# Altium footprint library _ROBOT.PcbLib: 77 footprints (part 4 of 5)
Each footprint in its own frame and in the unit in brackets; x right, y up, seen from the top. Pads: shape width x height; smd on the part's side, far side on the other; paste and mask are expansions set on the pad; w line width, h text height; cw(c..) or ccw(c..) is an arc to the next point about the centre after c.
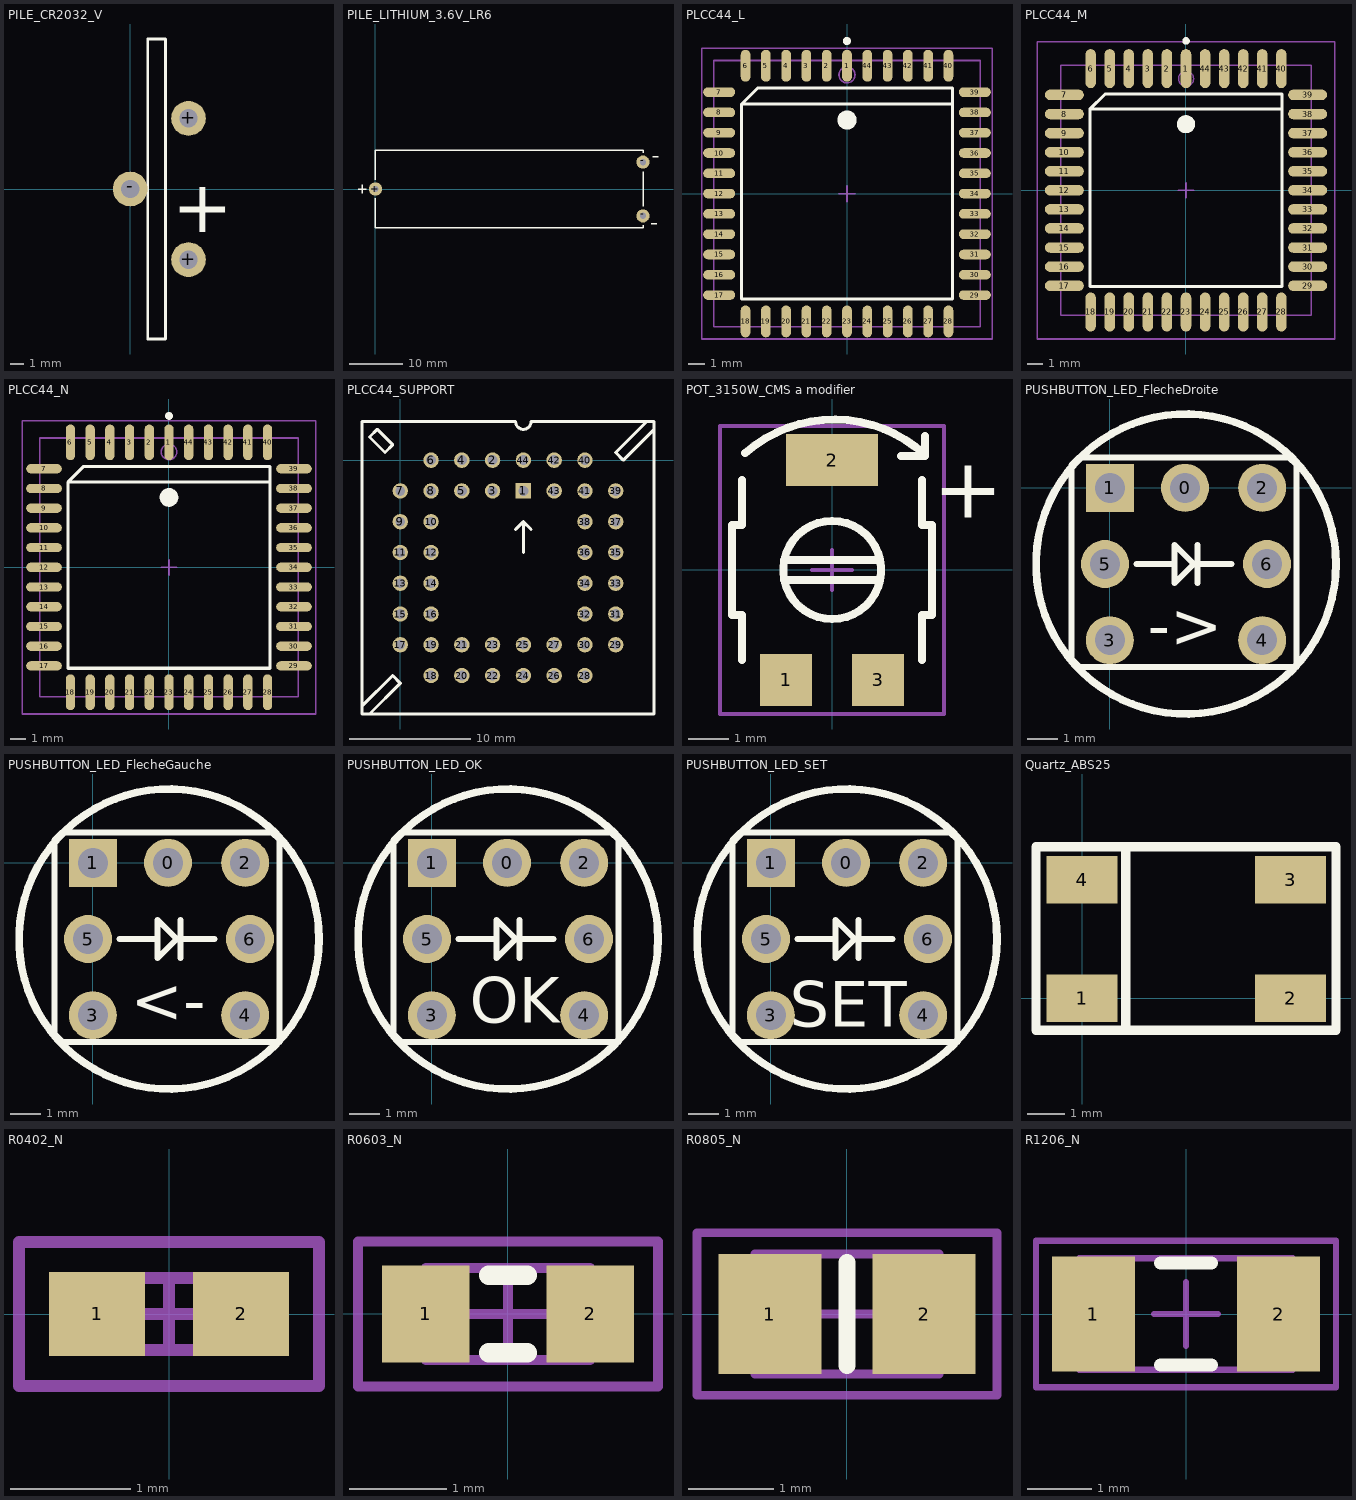
[diagram p3: the footprints below, top view; thin cyan lines are the x and y axes]

## PILE_CR2032_V [mil] "Pile Lithium; CR2032; Vertical; 10X4.2mm:Fix; Diameter:21.5"
height 984.25
pads (3):
  round 98.43 hole 52: +(165.35,-200) +(165.35,200) -(0,0)
Top Overlay:
  lines w8: 50,-425 100,-425 100,425 50,425 50,-425
  text "+" at 119.45,-122.5 h150

## PILE_LITHIUM_3.6V_LR6 [mm] "Lithium SL760/pr; 50.5mm/14.7mm; Pad Spacing=50.5mm/10.16mm"
height 15.5
pads (3):
  round 2.5 hole 1.2: +(0,0) -(50.5,-5.08) -(50.5,5.08)
Top Overlay:
  lines w0.254: -3.302,0 -1.778,0 ; -2.54,-0.762 -2.54,0.762 ; 0,-1.778 0,-7.35 50.546,-7.35 50.546,-7.112 50.546,-6.858 ; 0,1.778 0,7.35 50.546,7.35 50.546,6.858 ; 50.546,-3.302 50.546,3.302 ; 52.07,-6.604 53.086,-6.604 ; 52.324,6.096 53.34,6.096

## PLCC44_L [mm] "44-Pin Plastic J-Lead Chip Carrier (PLCC44), IPC High Density"
height 4.58
pads (44):
  oval 0.6x2 smd: 1(0,8) 2(-1.27,8) 3(-2.54,8) 4(-3.81,8) 5(-5.08,8) 6(-6.35,8) 18(-6.35,-8) 19(-5.08,-8) 20(-3.81,-8) 21(-2.54,-8) 22(-1.27,-8) 23(0,-8) 24(1.27,-8) 25(2.54,-8) 26(3.81,-8) 27(5.08,-8) 28(6.35,-8) 40(6.35,8) 41(5.08,8) 42(3.81,8) 43(2.54,8) 44(1.27,8)
  oval 2x0.6 smd: 7(-8,6.35) 8(-8,5.08) 9(-8,3.81) 10(-8,2.54) 11(-8,1.27) 12(-8,0) 13(-8,-1.27) 14(-8,-2.54) 15(-8,-3.81) 16(-8,-5.08) 17(-8,-6.35) 29(8,-6.35) 30(8,-5.08) 31(8,-3.81) 32(8,-2.54) 33(8,-1.27) 34(8,0) 35(8,1.27) 36(8,2.54) 37(8,3.81) 38(8,5.08) 39(8,6.35)
Top Overlay:
  circle w0.25: c0,9.55 r0.125
  circle w0.6: c0,4.6 r0.3
  lines w0.2: 6.6,5.6 -6.6,5.6 ; -6.6,5.6 -5.6,6.6 6.6,6.6 6.6,-6.6 -6.6,-6.6 -6.6,5.6
Mechanical 13:
  circle w0.1: c0,7.43 r0.5
  lines w0.1: -8.33,-8.33 -8.33,8.33 8.33,8.33 8.33,-8.33 -8.33,-8.33
Mechanical 15:
  lines w0.1: -0.5,0 0.5,0 ; 0,-0.5 0,0.5 ; -9.1,-9.1 -9.1,9.1 9.1,9.1 9.1,-9.1 -9.1,-9.1
3D body: height 4.58, standoff 0, extent -8.33,-8.33 8.33,8.33

## PLCC44_M [mm] "44-Pin Plastic J-Lead Chip Carrier (PLCC44), IPC Low Density"
height 4.58
pads (44):
  oval 0.7x2.6 smd: 1(0,8.1) 2(-1.27,8.1) 3(-2.54,8.1) 4(-3.81,8.1) 5(-5.08,8.1) 6(-6.35,8.1) 18(-6.35,-8.1) 19(-5.08,-8.1) 20(-3.81,-8.1) 21(-2.54,-8.1) 22(-1.27,-8.1) 23(0,-8.1) 24(1.27,-8.1) 25(2.54,-8.1) 26(3.81,-8.1) 27(5.08,-8.1) 28(6.35,-8.1) 40(6.35,8.1) 41(5.08,8.1) 42(3.81,8.1) 43(2.54,8.1) 44(1.27,8.1)
  oval 2.6x0.7 smd: 7(-8.1,6.35) 8(-8.1,5.08) 9(-8.1,3.81) 10(-8.1,2.54) 11(-8.1,1.27) 12(-8.1,0) 13(-8.1,-1.27) 14(-8.1,-2.54) 15(-8.1,-3.81) 16(-8.1,-5.08) 17(-8.1,-6.35) 29(8.1,-6.35) 30(8.1,-5.08) 31(8.1,-3.81) 32(8.1,-2.54) 33(8.1,-1.27) 34(8.1,0) 35(8.1,1.27) 36(8.1,2.54) 37(8.1,3.81) 38(8.1,5.08) 39(8.1,6.35)
Top Overlay:
  circle w0.6: c0,4.4 r0.3
  circle w0.25: c0,9.95 r0.125
  lines w0.2: 6.4,5.4 -6.4,5.4 ; -6.4,5.4 -6.4,-6.4 6.4,-6.4 6.4,6.4 -5.4,6.4 -6.4,5.4
Mechanical 13:
  circle w0.1: c0,7.43 r0.5
  lines w0.1: -8.33,-8.33 8.33,-8.33 8.33,8.33 -8.33,8.33 -8.33,-8.33
Mechanical 15:
  lines w0.1: -0.5,0 0.5,0 ; 0,-0.5 0,0.5 ; -9.9,-9.9 9.9,-9.9 9.9,9.9 -9.9,9.9 -9.9,-9.9
3D body: height 4.58, standoff 0, extent -8.33,-8.33 8.33,8.33

## PLCC44_N [mm] "44-Pin Plastic J-Lead Chip Carrier (PLCC44), IPC Medium Density"
height 4.58
pads (44):
  oval 0.6x2.3 smd: 1(0,8.05) 2(-1.27,8.05) 3(-2.54,8.05) 4(-3.81,8.05) 5(-5.08,8.05) 6(-6.35,8.05) 18(-6.35,-8.05) 19(-5.08,-8.05) 20(-3.81,-8.05) 21(-2.54,-8.05) 22(-1.27,-8.05) 23(0,-8.05) 24(1.27,-8.05) 25(2.54,-8.05) 26(3.81,-8.05) 27(5.08,-8.05) 28(6.35,-8.05) 40(6.35,8.05) 41(5.08,8.05) 42(3.81,8.05) 43(2.54,8.05) 44(1.27,8.05)
  oval 2.3x0.6 smd: 7(-8.05,6.35) 8(-8.05,5.08) 9(-8.05,3.81) 10(-8.05,2.54) 11(-8.05,1.27) 12(-8.05,0) 13(-8.05,-1.27) 14(-8.05,-2.54) 15(-8.05,-3.81) 16(-8.05,-5.08) 17(-8.05,-6.35) 29(8.05,-6.35) 30(8.05,-5.08) 31(8.05,-3.81) 32(8.05,-2.54) 33(8.05,-1.27) 34(8.05,0) 35(8.05,1.27) 36(8.05,2.54) 37(8.05,3.81) 38(8.05,5.08) 39(8.05,6.35)
Top Overlay:
  circle w0.6: c0,4.5 r0.3
  circle w0.25: c0,9.75 r0.125
  lines w0.2: 6.5,5.5 -6.5,5.5 ; -6.5,5.5 -6.5,-6.5 6.5,-6.5 6.5,6.5 -5.5,6.5 -6.5,5.5
Mechanical 13:
  circle w0.1: c0,7.43 r0.5
  lines w0.1: -8.33,-8.33 8.33,-8.33 8.33,8.33 -8.33,8.33 -8.33,-8.33
Mechanical 15:
  lines w0.1: -0.5,0 0.5,0 ; 0,-0.5 0,0.5 ; -9.45,-9.45 9.45,-9.45 9.45,9.45 -9.45,9.45 -9.45,-9.45
3D body: height 4.58, standoff 0, extent -8.33,-8.33 8.33,8.33

## PLCC44_SUPPORT [mil]
pads (44):
  rect 50x50 hole 32: 1(400,-100)
  round 50 hole 32: 2(300,0) 3(300,-100) 4(200,0) 5(200,-100) 6(100,0) 7(0,-100) 8(100,-100) 9(0,-200) 10(100,-200) 11(0,-300) 12(100,-300) 13(0,-400) 14(100,-400) 15(0,-500) 16(100,-500) 17(0,-600) 18(100,-700) 19(100,-600) 20(200,-700) 21(200,-600) 22(300,-700) 23(300,-600) 24(400,-700) 25(400,-600) 26(500,-700) 27(500,-600) 28(600,-700) 29(700,-600) 30(600,-600) 31(700,-500) 32(600,-500) 33(700,-400) 34(600,-400) 35(700,-300) 36(600,-300) 37(700,-200) 38(600,-200) 39(700,-100) 40(600,0) 41(600,-100) 42(500,0) 43(500,-100) 44(400,0)
Top Overlay:
  lines w10: -125,-800 -25,-700 0,-725 -100,-825 ; 375,-225 400,-200 ; 400,-300 400,-200 ; 425,-225 400,-200 ; 800,125 700,25 725,0 825,100 ; -125,-825 -125,125 375,125 ccw(c400,125) 425,125 825,125 825,-825 -125,-825 ; -100,75 -75,100 -25,50 -50,25 -100,75

## POT_3150W_CMS a modifier [mm] "Trimmer CMS 3150W Tyco"
height 1.4
pads (3):
  rect 1.3x1.3 smd: 1(-1.15,-2.75) 3(1.15,-2.75)
  rect 2.3x1.3 smd: 2(0,2.75)
Top Overlay:
  lines w0.2: -2.25,-2.25 -2.25,-1.125 -2.5,-1.125 -2.5,1.125 -2.25,1.125 -2.25,2.25 ; -2.177,2.919 cw(c0.05,0.4) 2.322,2.879 ; 1.726,2.851 2.326,2.851 2.326,3.351 ; 2.25,-2.25 2.25,-1.125 2.5,-1.125 2.5,1.125 2.25,1.125 2.25,2.25 ; -1.198,-0.255 ccw(c0,0) 1.198,-0.255 ; -1.198,-0.255 cw(c0,0) -1.198,0.255 ; -1.198,-0.255 1.198,-0.255 ; -1.198,0.255 cw(c0,0) 1.198,0.255 ; -1.198,0.255 1.198,0.255 ; 1.198,-0.255 ccw(c0,0) 1.198,0.255
  text "+" at 2.53,1.31 h1.52
Mechanical 15:
  lines w0.1: -0.5,0 0.5,0 ; 0,-0.5 0,0.5 ; -2.8,-3.6 2.8,-3.6 2.8,3.6 -2.8,3.6 -2.8,-3.6
3D body: height 2.55, standoff 0, extent -2.46,-3.1 2.54,3.1

## PUSHBUTTON_LED_FlecheDroite [mm]
height 5
pads (7):
  round 1.6 hole 1: 0(2.507,0) 2(5.08,0) 3(0,-5.08) 4(5.08,-5.08) 5(-0.16,-2.54) 6(5.24,-2.54)
  rect 1.6x1.6 hole 1: 1(0,0)
Top Overlay:
  circle w0.254: c2.54,-2.54 r5
  lines w0.2: 0.889,-2.54 2.032,-2.54 ; 2.921,-3.175 2.921,-1.905 ; 2.921,-2.54 4.064,-2.54 ; 5.048,-4.896 5.461,-5.309 ; -1.27,-5.715 -1.27,0.762 -1.016,1.016 5.969,1.016 6.223,0.762 6.223,-5.588 6.223,-5.969 -1.016,-5.969 -1.27,-5.715 ; 2.159,-3.175 2.159,-1.905 2.794,-2.54 2.159,-3.175
  text "->" at 1.27,-5.334 h1.52
3D body: height 10.02, standoff -3.48, extent -2.46,-7.54 7.54,2.46

## PUSHBUTTON_LED_FlecheGauche [mm]
height 5
pads (7):
  round 1.6 hole 1: 0(2.507,0) 2(5.08,0) 3(0,-5.08) 4(5.08,-5.08) 5(-0.16,-2.54) 6(5.24,-2.54)
  rect 1.6x1.6 hole 1: 1(0,0)
Top Overlay:
  circle w0.254: c2.54,-2.54 r5
  lines w0.2: 0.889,-2.54 2.032,-2.54 ; 2.921,-3.175 2.921,-1.905 ; 2.921,-2.54 4.064,-2.54 ; 5.048,-4.896 5.461,-5.309 ; -1.27,-5.715 -1.016,-5.969 6.223,-5.969 6.223,-5.588 6.223,0.762 5.969,1.016 -1.016,1.016 -1.27,0.762 -1.27,-5.715 ; 2.159,-3.175 2.794,-2.54 2.159,-1.905 2.159,-3.175
  text "<-" at 1.27,-5.334 h1.52
3D body: height 10.02, standoff -3.48, extent -2.46,-7.54 7.54,2.46

## PUSHBUTTON_LED_OK [mm]
height 5
pads (7):
  round 1.6 hole 1: 0(2.507,0) 2(5.08,0) 3(0,-5.08) 4(5.08,-5.08) 5(-0.16,-2.54) 6(5.24,-2.54)
  rect 1.6x1.6 hole 1: 1(0,0)
Top Overlay:
  circle w0.254: c2.54,-2.54 r5
  lines w0.2: 0.889,-2.54 2.032,-2.54 ; 2.921,-3.175 2.921,-1.905 ; 2.921,-2.54 4.064,-2.54 ; 5.048,-4.896 5.461,-5.309 ; -1.27,-5.715 -1.016,-5.969 6.223,-5.969 6.223,-5.588 6.223,0.762 5.969,1.016 -1.016,1.016 -1.27,0.762 -1.27,-5.715 ; 2.159,-3.175 2.794,-2.54 2.159,-1.905 2.159,-3.175
  text "OK" at 1.27,-5.334 h1.52
3D body: height 10.02, standoff -3.48, extent -2.46,-7.54 7.54,2.46

## PUSHBUTTON_LED_SET [mm]
height 5
pads (7):
  round 1.6 hole 1: 0(2.507,0) 2(5.08,0) 3(0,-5.08) 4(5.08,-5.08) 5(-0.16,-2.54) 6(5.24,-2.54)
  rect 1.6x1.6 hole 1: 1(0,0)
Top Overlay:
  circle w0.254: c2.54,-2.54 r5
  lines w0.2: 0.889,-2.54 2.032,-2.54 ; 2.921,-3.175 2.921,-1.905 ; 2.921,-2.54 4.064,-2.54 ; 5.048,-4.896 5.461,-5.309 ; -1.27,-5.715 -1.27,0.762 -1.016,1.016 5.969,1.016 6.223,0.762 6.223,-5.588 6.223,-5.969 -1.016,-5.969 -1.27,-5.715 ; 2.159,-3.175 2.159,-1.905 2.794,-2.54 2.159,-3.175
  text "SET" at 0.635,-5.461 h1.52
3D body: height 10.02, standoff -3.48, extent -2.46,-7.54 7.54,2.46

## Quartz_ABS25 [mil]
pads (4):
  rect 75x50 smd: 1(0,0) 2(220,0) 3(220,125) 4(0,125)
Top Overlay:
  lines w10: -48.75,159.97 -48.75,-34 268,-34 268,160 ; -48,160 267,160 ; 46.25,-34 46.25,159.97

## R0402_N [mm] "Chip Resistor, Body 1.1x0.5mm, IPC Medium Density"
height 0.4
pads (2):
  rect 0.8x0.7 smd: 1(-0.6,0) 2(0.6,0)
Mechanical 13:
  lines w0.1: -0.55,-0.3 -0.55,0.3 0.55,0.3 0.55,-0.3 -0.55,-0.3
Mechanical 15:
  lines w0.1: -0.3,0 0.3,0 ; 0,-0.3 0,0.3 ; -1.25,-0.6 -1.25,0.6 1.25,0.6 1.25,-0.6 -1.25,-0.6
3D body: height 0.4, standoff 0, extent -0.55,-0.3 0.55,0.3
3D body: height 0.27, standoff 0, extent -0.5,-0.25 0.5,0.252

## R0603_N [mm] "Chip Resistor, Body 1.6x0.8mm, IPC Medium Density"
height 0.6
pads (2):
  rect 0.9x1 smd: 1(-0.85,0) 2(0.85,0)
Top Overlay:
  lines w0.2: -0.2,-0.4 0.2,-0.4 ; -0.2,0.4 0.2,0.4
Mechanical 13:
  lines w0.1: -0.85,-0.475 -0.85,0.475 0.85,0.475 0.85,-0.475 -0.85,-0.475
Mechanical 15:
  lines w0.1: -0.475,0 0.475,0 ; 0,-0.475 0,0.475 ; -1.55,-0.75 -1.55,0.75 1.55,0.75 1.55,-0.75 -1.55,-0.75
3D body: height 0.6, standoff 0, extent -0.85,-0.475 0.85,0.475
3D body: height 0.37, standoff 0, extent -0.8,-0.402 0.8,0.4

## R0805_N [mm] "Chip Resistor, Body 2.0x1.3mm, IPC Medium Density"
height 0.65
pads (2):
  rect 1.2x1.4 smd: 1(-0.9,0) 2(0.9,0)
Top Overlay:
  lines w0.2: 0,-0.6 0,0.6
Mechanical 13:
  lines w0.1: -1.075,-0.7 -1.075,0.7 1.075,0.7 1.075,-0.7 -1.075,-0.7
Mechanical 15:
  lines w0.1: -0.5,0 0.5,0 ; 0,-0.5 0,0.5 ; -1.75,-0.95 -1.75,0.95 1.75,0.95 1.75,-0.95 -1.75,-0.95
3D body: height 0.65, standoff 0, extent -1.075,-0.7 1.075,0.7
3D body: height 0.47, standoff 0, extent -1,-0.627 1,0.625

## R1206_N [mm] "Chip Resistor, Body 3.2x1.6mm, IPC Medium Density"
height 0.71
pads (2):
  rect 1.3x1.8 smd: 1(-1.45,0) 2(1.45,0)
Top Overlay:
  lines w0.2: -0.4,-0.8 0.4,-0.8 ; -0.4,0.8 0.4,0.8
Mechanical 13:
  lines w0.1: -1.675,-0.875 1.675,-0.875 1.675,0.875 -1.675,0.875 -1.675,-0.875
Mechanical 15:
  lines w0.1: -0.5,0 0.5,0 ; 0,-0.5 0,0.5 ; -2.35,-1.15 2.35,-1.15 2.35,1.15 -2.35,1.15 -2.35,-1.15
3D body: height 0.71, standoff 0, extent -1.675,-0.875 1.675,0.875
3D body: height 0.47, standoff 0, extent -1.525,-0.777 1.575,0.775